# EAGLE library part MPU-6050 (library thanics_robotics)
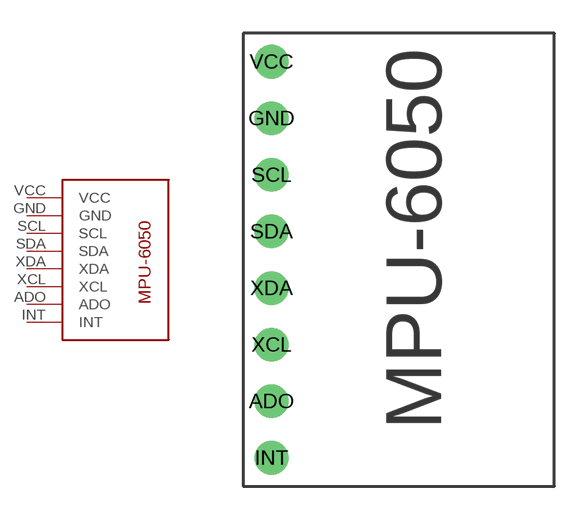
[diagram p0: symbol with the pads of MPU-6050; footprint MPU-6050]

Designator prefix -

## MPU-6050  [MPU-6050]
ADO  ADO
GND  GND  pwr
INT  INT
SCL  SCL
SDA  SDA
VCC  VCC  pwr
XCL  XCL
XDA  XDA

## Footprint MPU-6050 (pad centres in mm)
drill 1: ADO -2.54,-6.35; GND -2.54,6.35; INT -2.54,-8.89; SCL -2.54,3.81; SDA -2.54,1.27; VCC -2.54,8.89; XCL -2.54,-3.81; XDA -2.54,-1.27